# EAGLE library part CAT24C32_SOIC8 (library RPi_Keypad_Tester)
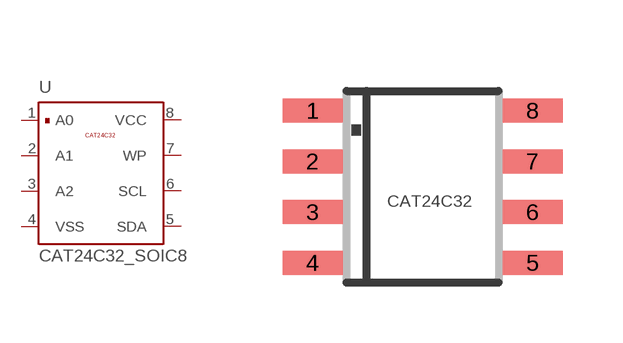
[diagram p3: symbol with the pads of CAT24C32_SOIC8; footprint CAT24C32_SOIC8]

Designator prefix -

## CAT24C32_SOIC8  [CAT24C32_SOIC8]
1  A0
2  A1
3  A2
4  VSS  pwr
5  SDA  in
6  SCL  in
7  WP  in
8  VCC  pwr

## Footprint CAT24C32_SOIC8 (pad centres in mm)
Footprint - CAT24C32 EEPROM - 32Kb I2C - Raspberry Pi HAT
smd 1.5 x 0.6: 1 -2.75,1.905; 2 -2.75,0.635; 3 -2.75,-0.635; 4 -2.75,-1.905; 5 2.75,-1.905; 6 2.75,-0.635; 7 2.75,0.635; 8 2.75,1.905